# Altium footprint library CURRENT_SENS.PcbLib: 1 footprints
Each footprint in its own frame and in the unit in brackets; x right, y up, seen from the top. Pads: shape width x height; smd on the part's side, far side on the other; paste and mask are expansions set on the pad; w line width, h text height; cw(c..) or ccw(c..) is an arc to the next point about the centre after c.
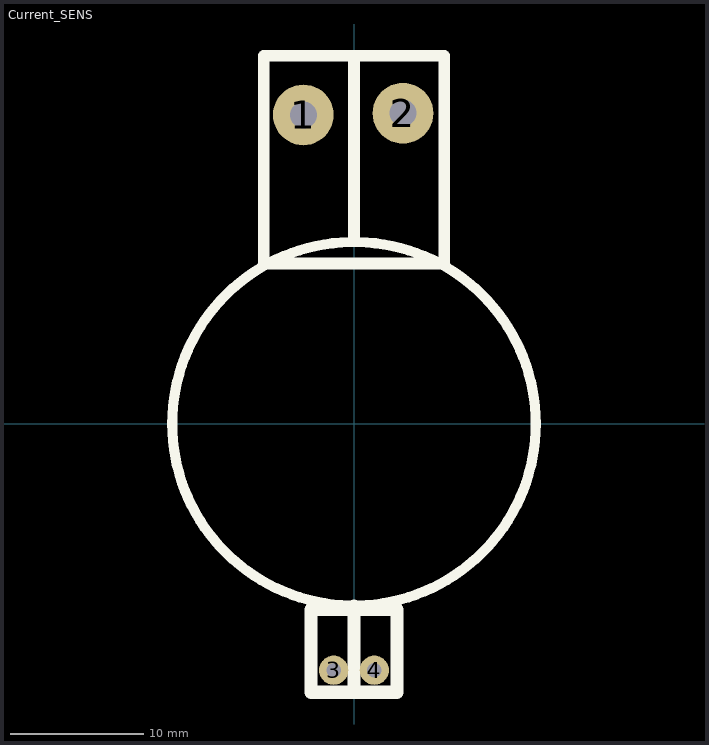
[diagram p0: the footprint, top view; thin cyan lines are the x and y axes]

## Current_SENS [mil]
pads (4):
  round 180 hole 80: 1(-150,915) 2(145,920)
  round 86.61 hole 43.31: 3(-60,-730) 4(60,-730)
Top Overlay:
  circle w30: c0,0 r538.52
  lines w35: 0,552.5 0,1090 ; -267.5,475 267.5,475 267.5,1090 -267.5,1090 -267.5,475
  lines w39.37: 0,-795 0,-540 ; -127.5,-795 127.5,-795 127.5,-550 -127.5,-550 -127.5,-795
3D body "Измеритель тока.STEP": height 264.78, standoff -565.75, extent -544.09,-741.62 544.09,962.58